# Altium footprint library PcbLibForHigh_Voltage_Sensor.PcbLib: 35 footprints (part 1 of 3)
Each footprint in its own frame and in the unit in brackets; x right, y up, seen from the top. Pads: shape width x height; smd on the part's side, far side on the other; paste and mask are expansions set on the pad; w line width, h text height; cw(c..) or ccw(c..) is an arc to the next point about the centre after c.
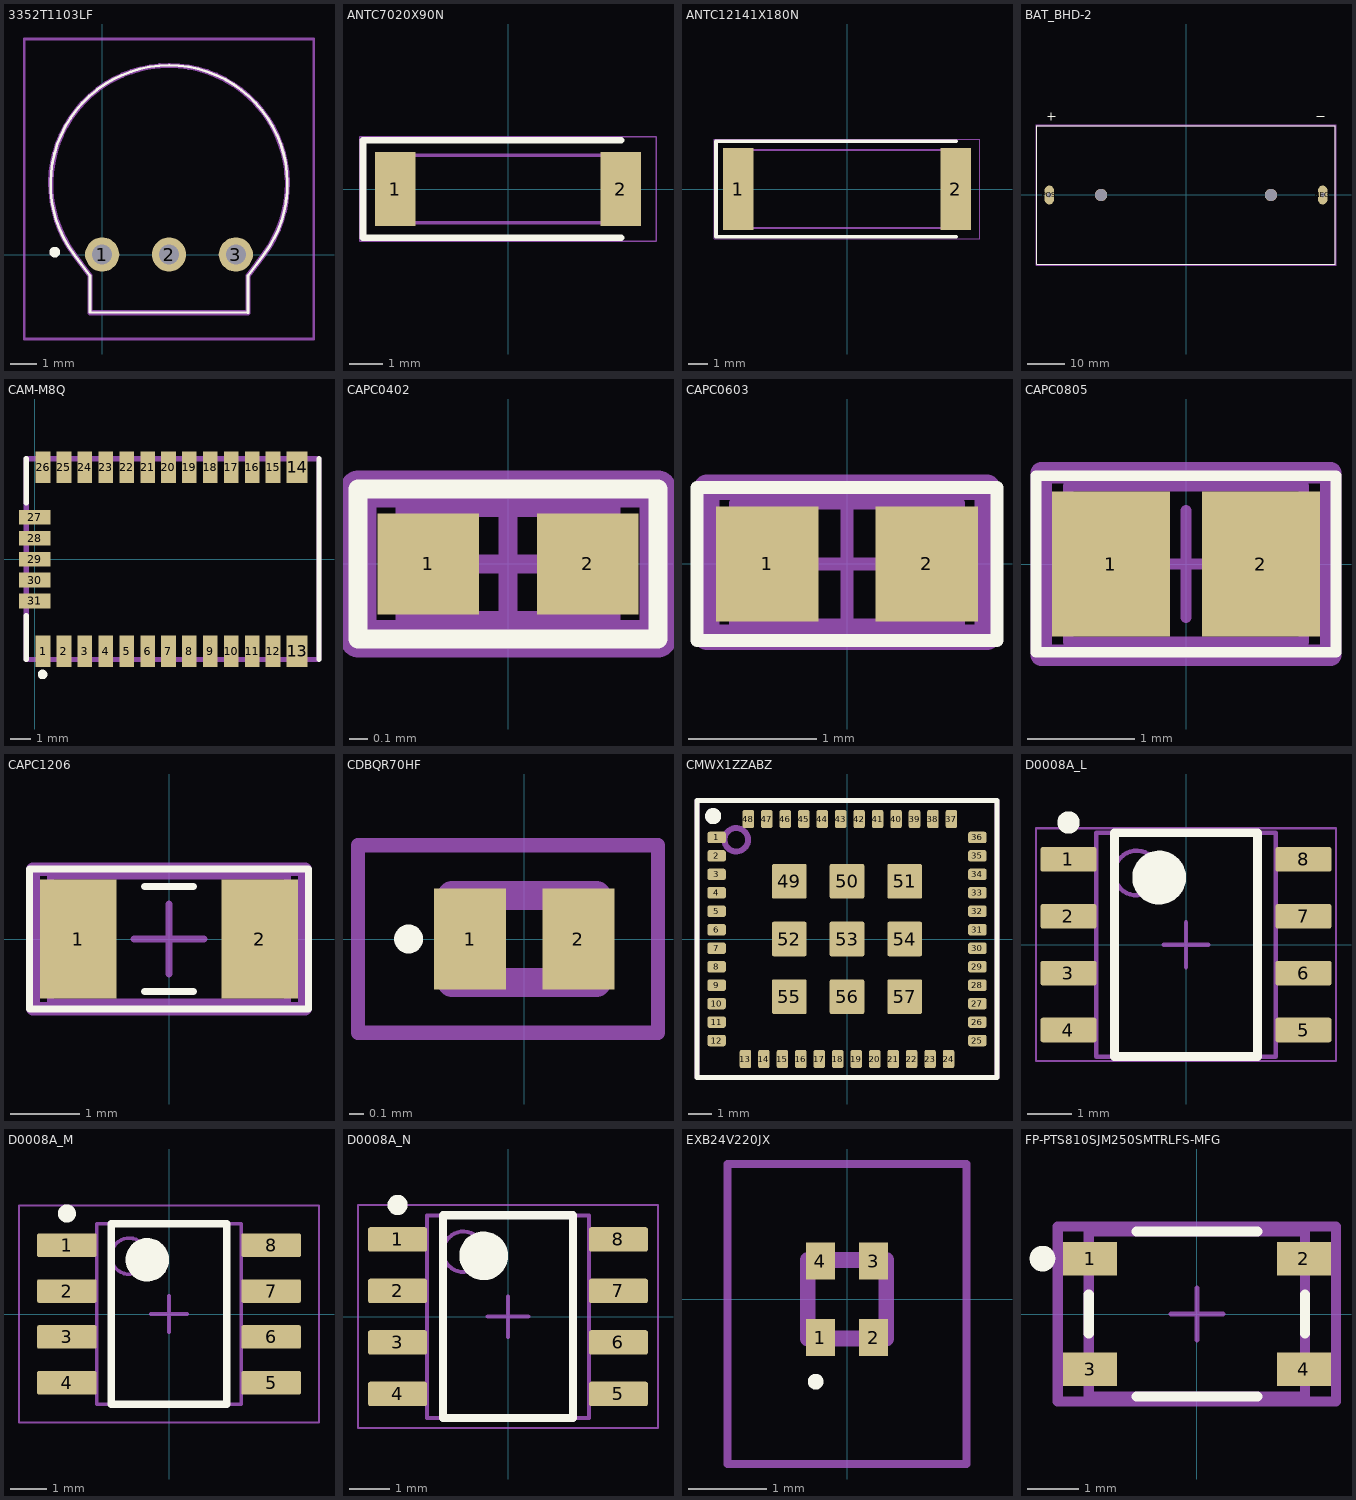
[diagram p0: the footprints below, top view; thin cyan lines are the x and y axes]

## 3352T1103LF [mm]
pads (3):
  round 1.303 hole 0.76: 1(0,0.01) 2(2.54,0.01) 3(5.08,0.01)
Top Overlay:
  lines w0.1: -1.063,0.004 cw(c2.54,2.7) 6.139,-0.002 ; -1.06,0 -0.46,-0.8 -0.46,-2.187 5.54,-2.2 5.54,-0.8 6.14,0
  lines w0.2: -1.8,0 ccw(c-1.8,0.1) -1.8,0.2 ccw(c-1.8,0.1) -1.8,0
Mechanical 13:
  lines w0.2: -1.06,0.01 -0.46,-0.8 -0.46,-2.2 5.54,-2.2 5.54,-0.8 6.14,0 ; -1.061,0.011 cw(c2.544,2.698) 6.138,-0.002
Mechanical 15:
  lines w0.1: -2.96,-3.2 -2.96,8.2 8.04,8.2 8.04,-3.2 -2.96,-3.2
3D body "3352T-1-103LF.stp": height 0.1, standoff -5, extent -0.278,-0.269 5.36,0.289

## ANTC7020X90N [mm]
pads (2):
  rect 1.2x2.2 smd: 1(-3.35,0) 2(3.35,0)
Top Overlay:
  lines w0.2: 3.35,-1.45 -4.3,-1.45 -4.3,1.45 3.35,1.45
Mechanical 13:
  lines w0.1: -3.5,0.4 -2.9,1 ; -3.5,-1 3.5,-1 3.5,1 -3.5,1 -3.5,-1
Mechanical 15:
  lines w0.05: -4.4,-1.55 4.4,-1.55 4.4,1.55 -4.4,1.55 -4.4,-1.55
3D body "0900AT43A0070E.stp": height 0.9, standoff 0, extent -3.5,-1 3.5,1

## ANTC12141X180N [mm]
pads (2):
  rect 1.6x4.3 smd: 1(-5.7,0) 2(5.7,0)
Top Overlay:
  lines w0.2: 5.7,-2.5 -6.85,-2.5 -6.85,2.5 5.7,2.5
Mechanical 13:
  lines w0.1: -6.05,1.25 -5.25,2.05 ; -6.05,-2.05 6.05,-2.05 6.05,2.05 -6.05,2.05 -6.05,-2.05
Mechanical 15:
  lines w0.05: -6.95,-2.6 6.95,-2.6 6.95,2.6 -6.95,2.6 -6.95,-2.6
3D body "ANT1204LL05R0915A.stp": height 1.8, standoff 0, extent -6.05,-2.05 6.05,2.05

## BAT_BHD-2 [mm]
pads (4):
  oval 2.54x5.08 hole 1.27 square: NEG(36.575,0) POS(-36.575,0)
  round 3.3 hole 3.3 unplated: ""(-22.725,0) ""(22.725,0)
Top Overlay:
  lines w0.127: -37,21 -36,21 ; -36,20 -36,21 ; -36,22 -36,21 ; -35,21 -36,21 ; 35,21 37,21 ; -39.875,-18.54 39.875,-18.54 39.875,18.54 -39.875,18.54 -39.875,-18.54
Mechanical 13:
  lines w0.127: -39.875,-18.54 39.875,-18.54 39.875,18.54 -39.875,18.54 -39.875,-18.54
Mechanical 15:
  lines w0.05: -40.125,-18.79 40.125,-18.79 40.125,18.79 -40.125,18.79 -40.125,-18.79
3D body "BHD-2.step": height 37.46, standoff -7.37, extent -40.307,-18.845 39.443,18.235

## CAM-M8Q [mm]
pads (31):
  rect 0.7x1.5 smd: 1(0.4,-4.4) 2(1.4,-4.4) 3(2.4,-4.4) 4(3.4,-4.4) 5(4.4,-4.4) 6(5.4,-4.4) 7(6.4,-4.4) 8(7.4,-4.4) 9(8.4,-4.4) 10(9.4,-4.4) 11(10.4,-4.4) 12(11.4,-4.4) 15(11.4,4.4) 16(10.4,4.4) 17(9.4,4.4) 18(8.4,4.4) 19(7.4,4.4) 20(6.4,4.4) 21(5.4,4.4) 22(4.4,4.4) 23(3.4,4.4) 24(2.4,4.4) 25(1.4,4.4) 26(0.4,4.4)
  rect 1x1.5 smd: 13(12.55,-4.4) 14(12.55,4.4)
  rect 1.5x0.7 smd: 27(0,2) 28(0,1) 29(0,0) 30(0,-1) 31(0,-2)
Top Overlay:
  circle w0.254: c0.378,-5.514 r0.099
  lines w0.254: -0.4,-4.8 -0.4,-2.7 ; -0.4,2.7 -0.4,4.8 ; 13.6,-4.8 13.6,4.8
Mechanical 13:
  lines w0.254: -0.4,-4.8 13.6,-4.8 13.6,4.8 -0.4,4.8 -0.4,-4.8
3D body "CAM-M8Q-0--3DModel-STEP-56544.STEP": height 2.3, standoff 0, extent -0.421,-4.775 13.579,4.825

## CAPC0402 [mm] "Chip Capacitor 0402, 2-Leads, Body 1.00x0.50mm, IPC High Density"
height 0.6
pads (2):
  rect 0.54x0.54 smd: 1(-0.425,0) 2(0.425,0)
Top Overlay:
  lines w0.1: -0.8,-0.4 0.8,-0.4 0.8,0.4 -0.8,0.4 -0.8,-0.4
Mechanical 13:
  lines w0.1: -0.55,-0.3 0.55,-0.3 0.55,0.3 -0.55,0.3 -0.55,-0.3
Mechanical 15:
  lines w0.05: -0.8,-0.4 0.8,-0.4 0.8,0.4 -0.8,0.4 -0.8,-0.4
  lines w0.1: -0.3,0 0.3,0 ; 0,-0.3 0,0.3
Mechanical 29:
  lines w0.2: -0.8,-0.4 0.8,-0.4 0.8,0.4 -0.8,0.4 -0.8,-0.4
  text "'.Designator'" at -1.025,-0.2 h0.5
3D body: height 0.6, standoff 0, extent 0.35,-0.3 0.55,0.3
3D body: height 0.6, standoff 0, extent -0.55,-0.3 -0.35,0.3
3D body: height 0.6, standoff 0, extent -0.35,-0.3 0.35,0.3

## CAPC0603 [mm] "Chip Capacitor 0603, 2-Leads, Body 1.60x0.80mm, IPC High Density"
height 0.85
pads (2):
  rect 0.8x0.9 smd: 1(-0.625,0) 2(0.625,0)
Top Overlay:
  lines w0.1: -1.175,-0.6 1.175,-0.6 1.175,0.6 -1.175,0.6 -1.175,-0.6
Mechanical 13:
  lines w0.1: -0.875,-0.475 -0.875,0.475 0.875,0.475 0.875,-0.475 -0.875,-0.475
Mechanical 15:
  lines w0.05: -1.1,-0.6 -1.1,0.6 1.1,0.6 1.1,-0.6 -1.1,-0.6
  lines w0.1: -0.475,0 0.475,0 ; 0,-0.475 0,0.475
Mechanical 29:
  lines w0.2: -1.1,-0.575 1.1,-0.575 1.1,0.6 -1.1,0.6 -1.1,-0.575
  text "'.Designator'" at -1.1,-0.225 h0.5
3D body: height 0.85, standoff 0, extent -0.525,-0.475 0.525,0.475
3D body: height 0.85, standoff 0, extent -0.875,-0.475 -0.525,0.475
3D body: height 0.85, standoff 0, extent 0.525,-0.475 0.875,0.475

## CAPC0805 [mm] "Chip Capacitor 0805, 2-Leads, Body 2.00x1.25mm, IPC High Density"
height 1.1
pads (2):
  rect 1.1x1.35 smd: 1(-0.7,0) 2(0.7,0)
Top Overlay:
  lines w0.1: -1.4,-0.825 1.4,-0.825 1.4,0.825 -1.4,0.825 -1.4,-0.825
Mechanical 13:
  lines w0.1: -1.1,-0.725 -1.1,0.725 1.1,0.725 1.1,-0.725 -1.1,-0.725
Mechanical 15:
  lines w0.05: -1.35,-0.85 -1.35,0.85 1.35,0.85 1.35,-0.85 -1.35,-0.85
  lines w0.1: -0.5,0 0.5,0 ; 0,-0.5 0,0.5
Mechanical 29:
  lines w0.2: -1.35,-0.85 -1.35,0.85 1.35,0.85 1.35,-0.85 -1.35,-0.85
  text "'.Designator'" at -1.15,-0.2 h0.5
3D body: height 1.1, standoff 0, extent -0.6,-0.725 0.6,0.725
3D body: height 1.1, standoff 0, extent -1.1,-0.725 -0.6,0.725
3D body: height 1.1, standoff 0, extent 0.6,-0.725 1.1,0.725

## CAPC1206 [mm] "Chip Capacitor 1206, 2-Leads, Body 3.20x1.60mm, IPC High Density"
height 1.35
pads (2):
  rect 1.1x1.7 smd: 1(-1.3,0) 2(1.3,0)
Top Overlay:
  lines w0.1: -0.35,-0.75 0.35,-0.75 ; -0.35,0.75 0.35,0.75 ; -2,-1 2,-1 2,1 -2,1 -2,-1
Mechanical 13:
  lines w0.1: -1.7,-0.9 1.7,-0.9 1.7,0.9 -1.7,0.9 -1.7,-0.9
Mechanical 15:
  lines w0.05: -1.95,-1 1.95,-1 1.95,1 -1.95,1 -1.95,-1
  lines w0.1: -0.5,0 0.5,0 ; 0,-0.5 0,0.5
Mechanical 29:
  lines w0.2: -1.95,-1 -1.95,1 1.95,1 1.95,-1 -1.95,-1
  text "'.Designator'" at -1.15,-0.65 h1
3D body: height 1.35, standoff 0, extent 1.2,-0.9 1.7,0.9
3D body: height 1.35, standoff 0, extent -1.7,-0.9 -1.2,0.9
3D body: height 1.35, standoff 0, extent -1.2,-0.9 1.2,0.9

## CDBQR70HF [mm]
pads (2):
  rect 0.5x0.7 smd: 1(-0.375,0) 2(0.375,0)
Top Overlay:
  lines w0.1: -0.8,-0.05 cw(c-0.8,0) -0.8,0.05 cw(c-0.8,0) -0.8,-0.05
Mechanical 13:
  lines w0.2: -0.5,-0.3 -0.5,0.3 0.5,0.3 0.5,-0.3 -0.5,-0.3
Mechanical 15:
  lines w0.1: -1.15,-0.65 -1.15,0.65 0.925,0.65 0.925,-0.65 -1.15,-0.65
3D body "Stackpole CSR0402 Res.STEP": height 0.32, standoff 0, extent -0.5,-0.25 0.55,0.25

## CMWX1ZZABZ [mm] "muRata LoRa module"
height 1.76
pads (57):
  rrect40% 0.8x0.5 smd: 1(-5.65,4.4) 2(-5.65,3.6) 3(-5.65,2.8) 4(-5.65,2) 5(-5.65,1.2) 6(-5.65,0.4) 7(-5.65,-0.4) 8(-5.65,-1.2) 9(-5.65,-2) 10(-5.65,-2.8) 11(-5.65,-3.6) 12(-5.65,-4.4) 25(5.65,-4.4) 26(5.65,-3.6) 27(5.65,-2.8) 28(5.65,-2) 29(5.65,-1.2) 30(5.65,-0.4) 31(5.65,0.4) 32(5.65,1.2) 33(5.65,2) 34(5.65,2.8) 35(5.65,3.6) 36(5.65,4.4)
  rrect40% 0.5x0.8 smd: 13(-4.4,-5.2) 14(-3.6,-5.2) 15(-2.8,-5.2) 16(-2,-5.2) 17(-1.2,-5.2) 18(-0.4,-5.2) 19(0.4,-5.2) 20(1.2,-5.2) 21(2,-5.2) 22(2.8,-5.2) 23(3.6,-5.2) 24(4.4,-5.2) 37(4.525,5.2) 38(3.725,5.2) 39(2.925,5.2) 40(2.125,5.2) 41(1.325,5.2) 42(0.525,5.2) 43(-0.275,5.2) 44(-1.075,5.2) 45(-1.875,5.2) 46(-2.675,5.2) 47(-3.475,5.2) 48(-4.275,5.2)
  rrect10% 1.5x1.5 smd: 49(-2.5,2.5) 50(0,2.5) 51(2.5,2.5) 52(-2.5,0) 53(0,0) 54(2.5,0) 55(-2.5,-2.5) 56(0,-2.5) 57(2.5,-2.5)
Top Overlay:
  circle w0.4: c-5.8,5.325 r0.15
  lines w0.203: -6.5,-6 -6.5,6 6.5,6 6.5,-6 -6.5,-6
Top Assembly:
  circle w0.254: c-4.8,4.3 r0.51
  lines w0.203: -6.5,-6 6.5,-6 6.5,6 -6.5,6 -6.5,-6
  text ".designator" at -4.775,-2.075 h3
3D body "CMWX1ZZABZ.STEP": height 1.76, standoff 0, extent -6.25,-5.8 6.25,5.8

## D0008A_L [mm] "SOIC, 8-Leads, Body 5x4mm, Pitch 1.27mm, IPC High Density"
height 1.75
pads (8):
  rrect18% 1.25x0.55 smd: 1(-2.625,1.905) 2(-2.625,0.635) 3(-2.625,-0.635) 4(-2.625,-1.905) 5(2.625,-1.905) 6(2.625,-0.635) 7(2.625,0.635) 8(2.625,1.905)
Top Overlay:
  circle w0.6: c-0.6,1.5 r0.3
  circle w0.25: c-2.625,2.73 r0.125
  lines w0.2: -1.6,-2.5 1.6,-2.5 1.6,2.5 -1.6,2.5 -1.6,-2.5
Mechanical 1:
  text ".Designator" at -1.397,-0.254 h0.6
Mechanical 13:
  circle w0.1: c-1.1,1.6 r0.5
  lines w0.1: -2,-2.5 2,-2.5 2,2.5 -2,2.5 -2,-2.5
Mechanical 15:
  lines w0.05: -3.35,-2.6 3.35,-2.6 3.35,2.6 -3.35,2.6 -3.35,-2.6
  lines w0.1: -0.5,0 0.5,0 ; 0,-0.5 0,0.5
3D body "SOIC-8akaD0008AakaM08A.stp": height 1.63, standoff 0, extent -3,-2.45 3,2.45

## D0008A_M [mm] "SOIC, 8-Leads, Body 5x4mm, Pitch 1.27mm, IPC Low Density"
height 1.75
pads (8):
  rrect15% 1.65x0.65 smd: 1(-2.825,1.905) 2(-2.825,0.635) 3(-2.825,-0.635) 4(-2.825,-1.905) 5(2.825,-1.905) 6(2.825,-0.635) 7(2.825,0.635) 8(2.825,1.905)
Top Overlay:
  circle w0.6: c-0.6,1.5 r0.3
  circle w0.25: c-2.825,2.78 r0.125
  lines w0.2: -1.6,-2.5 1.6,-2.5 1.6,2.5 -1.6,2.5 -1.6,-2.5
Mechanical 1:
  text ".Designator" at -1.397,-0.254 h0.6
Mechanical 13:
  circle w0.1: c-1.1,1.6 r0.5
  lines w0.1: -2,-2.5 2,-2.5 2,2.5 -2,2.5 -2,-2.5
Mechanical 15:
  lines w0.05: -4.15,-3 4.15,-3 4.15,3 -4.15,3 -4.15,-3
  lines w0.1: -0.5,0 0.5,0 ; 0,-0.5 0,0.5
3D body "SOIC-8akaD0008AakaM08A.stp": height 1.63, standoff 0, extent -3,-2.45 3,2.45

## D0008A_N [mm] "SOIC, 8-Leads, Body 5x4mm, Pitch 1.27mm, IPC Medium Density"
height 1.75
pads (8):
  rrect17% 1.45x0.6 smd: 1(-2.725,1.905) 2(-2.725,0.635) 3(-2.725,-0.635) 4(-2.725,-1.905) 5(2.725,-1.905) 6(2.725,-0.635) 7(2.725,0.635) 8(2.725,1.905)
Top Overlay:
  circle w0.25: c-2.725,2.755 r0.125
  circle w0.6: c-0.6,1.5 r0.3
  lines w0.2: -1.6,-2.5 -1.6,2.5 1.6,2.5 1.6,-2.5 -1.6,-2.5
Mechanical 1:
  text ".Designator" at -1.397,-0.254 h0.6
Mechanical 13:
  circle w0.1: c-1.1,1.6 r0.5
  lines w0.1: -2,-2.5 -2,2.5 2,2.5 2,-2.5 -2,-2.5
Mechanical 15:
  lines w0.05: -3.7,-2.75 -3.7,2.75 3.7,2.75 3.7,-2.75 -3.7,-2.75
  lines w0.1: -0.5,0 0.5,0 ; 0,-0.5 0,0.5
3D body "SOIC-8akaD0008AakaM08A.stp": height 1.63, standoff 0, extent -3,-2.45 3,2.45

## EXB24V220JX [mm]
pads (4):
  rect 0.375x0.475 smd: 1(-0.338,-0.488) 2(0.338,-0.488) 3(0.338,0.487) 4(-0.338,0.487)
Top Overlay:
  lines w0.1: -0.4,-1.1 ccw(c-0.4,-1.05) -0.4,-1 ccw(c-0.4,-1.05) -0.4,-1.1
Mechanical 13:
  lines w0.2: -0.5,-0.5 -0.5,0.5 0.5,0.5 0.5,-0.5 -0.5,-0.5
Mechanical 15:
  lines w0.1: -1.525,-2.1 -1.525,1.725 1.525,1.725 1.525,-2.1 -1.525,-2.1
3D body "EXB-24V220JX.stp": height 0.55, standoff 0, extent -0.5,-0.688 0.5,0.687

## FP-PTS810SJM250SMTRLFS-MFG [mm]
pads (4):
  rect 1.05x0.65 smd paste+0 mask+0: 1(-2.075,1.075) 2(2.075,1.075) 3(-2.075,-1.075) 4(2.075,-1.075)
Top Overlay:
  circle w0.25: c-3,1.075 r0.125
  lines w0.2: -2.1,-0.375 -2.1,0.375 ; -1.175,-1.6 1.175,-1.6 ; -1.175,1.6 1.175,1.6 ; 2.1,-0.375 2.1,0.375
Mechanical 5:
  lines w0.2: -2.7,-1.7 2.7,-1.7 2.7,1.7 -2.7,1.7 -2.7,-1.7
  text ".Designator" at 0,0.188 h1
Mechanical 13:
  lines w0.2: -2.1,-1.6 2.1,-1.6 2.1,1.6 -2.1,1.6 -2.1,-1.6
Mechanical 15:
  lines w0.2: -2.7,-1.7 2.7,-1.7 2.7,1.7 -2.7,1.7 -2.7,-1.7
Mechanical 16:
  lines w0.1: -0.5,0 0.5,0 ; 0,-0.5 0,0.5
3D body "Switch_C&K_Components_PTS810SJM250SMTRLFS_eec.STEP": height 0.25, standoff 0, extent -2.7,-1.7 2.7,1.7